# EAGLE library part MEM2061 (library esbd-connectors)
MEM2061 GCT Micro SD Memory Card Connector, 1.88mm Profile SMT,Push Push, with normally closed switch
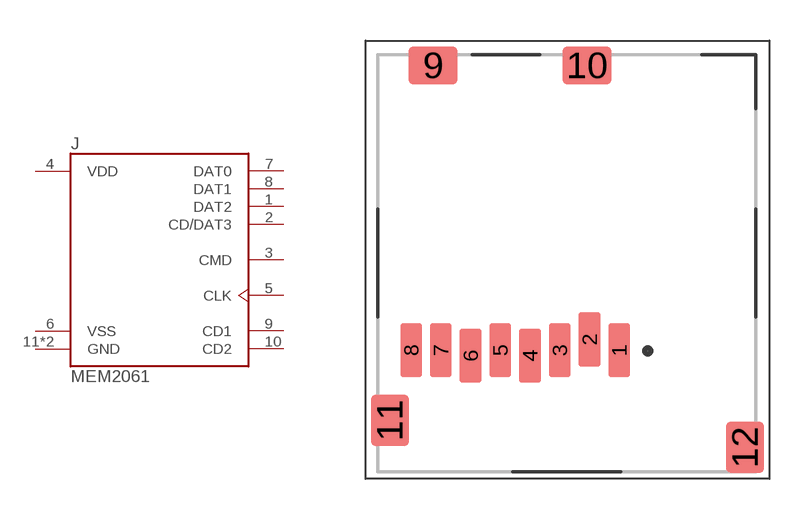
[diagram p14: symbol with the pads of MEM2061; footprint MEM2061]

Designator prefix J

## MEM2061-01-188-00-A  [MEM2061]
1  DAT2
2  CD/DAT3
3  CMD
4  VDD  pwr
5  CLK
6  VSS  pwr
7  DAT0
8  DAT1
9  CD1  pas
10  CD2  pas
11  GND  pwr
12  GND  pwr

## Footprint MEM2061 (pad centres in mm)
smd 0.8 x 2: 1 1.94,-3.225; 2 0.84,-2.825; 3 -0.26,-3.225; 4 -1.36,-3.425; 5 -2.46,-3.225; 6 -3.56,-3.425; 7 -4.66,-3.225; 8 -5.76,-3.225
smd 1.8 x 1.4: 9 -4.95,7.325; 10 0.75,7.325
smd 1.4 x 1.9: 11 -6.55,-5.825; 12 6.6,-6.825